# Altium footprint library Fancy.PcbLib: 140 footprints (part 9 of 9)
Each footprint in its own frame and in the unit in brackets; x right, y up, seen from the top. Pads: shape width x height; smd on the part's side, far side on the other; paste and mask are expansions set on the pad; w line width, h text height; cw(c..) or ccw(c..) is an arc to the next point about the centre after c.
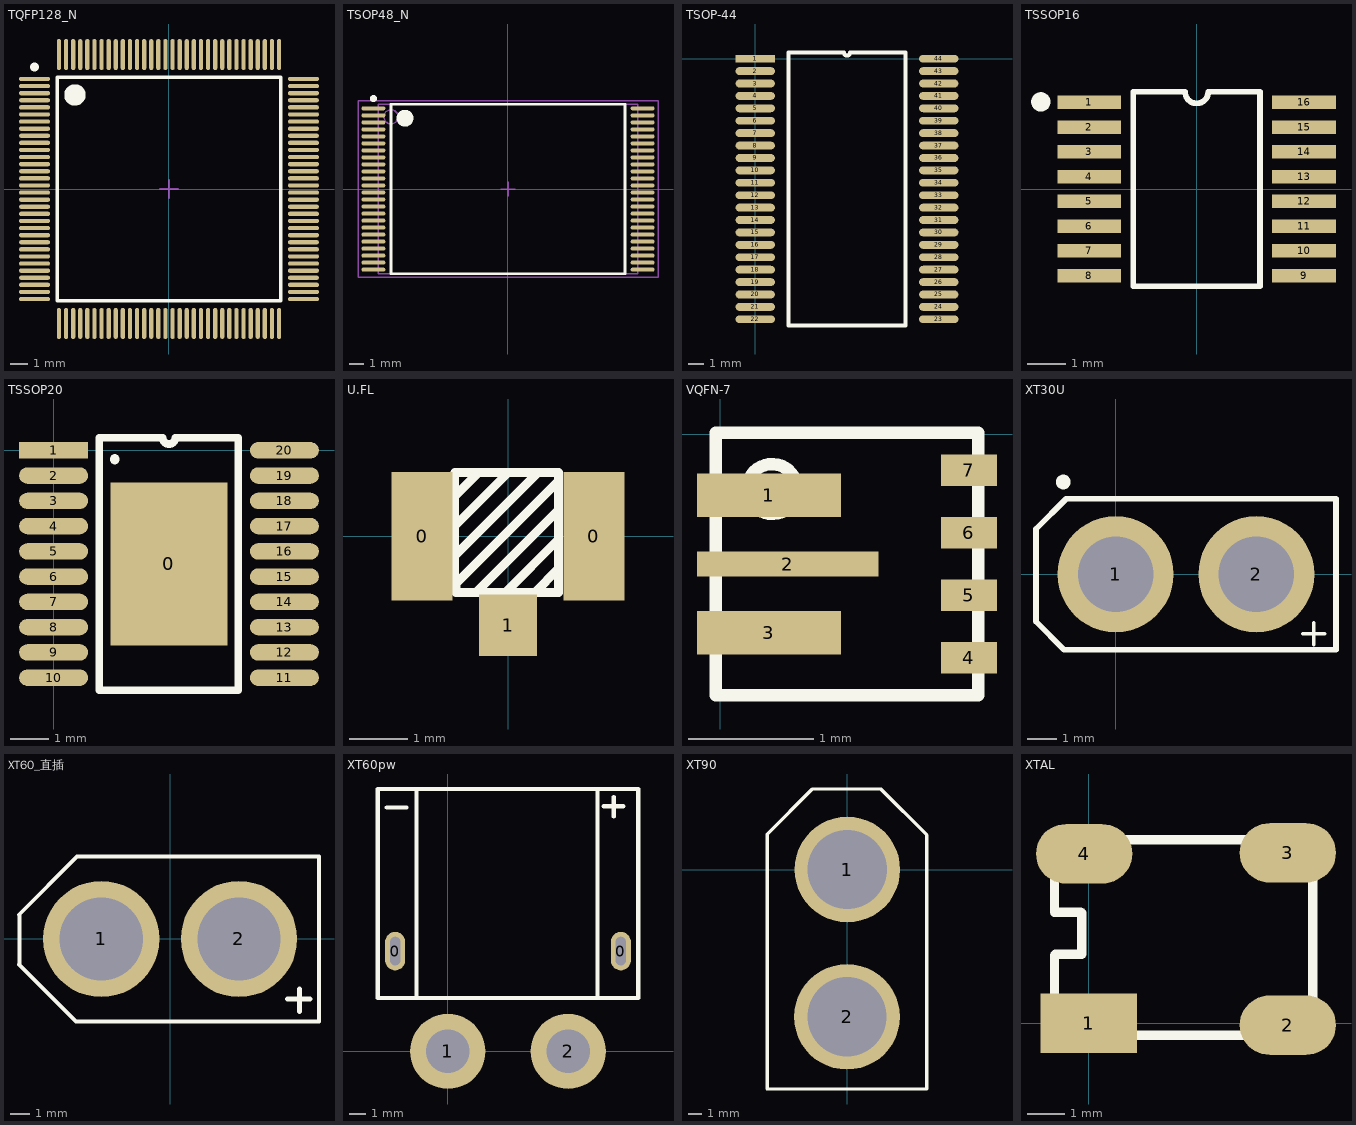
[diagram p8: the footprints below, top view; thin cyan lines are the x and y axes]

## TQFP128_N [mm] "Thin QFP, 128-Leads, Body 14x14mm, Pitch 0.4mm, IPC Medium Density"
height 1.2
pads (128):
  oval 1.75x0.24 smd: 1(-7.575,6.2) 2(-7.575,5.8) 3(-7.575,5.4) 4(-7.575,5) 5(-7.575,4.6) 6(-7.575,4.2) 7(-7.575,3.8) 8(-7.575,3.4) 9(-7.575,3) 10(-7.575,2.6) 11(-7.575,2.2) 12(-7.575,1.8) 13(-7.575,1.4) 14(-7.575,1) 15(-7.575,0.6) 16(-7.575,0.2) 17(-7.575,-0.2) 18(-7.575,-0.6) 19(-7.575,-1) 20(-7.575,-1.4) 21(-7.575,-1.8) 22(-7.575,-2.2) 23(-7.575,-2.6) 24(-7.575,-3) 25(-7.575,-3.4) 26(-7.575,-3.8) 27(-7.575,-4.2) 28(-7.575,-4.6) 29(-7.575,-5) 30(-7.575,-5.4) 31(-7.575,-5.8) 32(-7.575,-6.2) 65(7.575,-6.2) 66(7.575,-5.8) 67(7.575,-5.4) 68(7.575,-5) 69(7.575,-4.6) 70(7.575,-4.2) 71(7.575,-3.8) 72(7.575,-3.4) 73(7.575,-3) 74(7.575,-2.6) 75(7.575,-2.2) 76(7.575,-1.8) 77(7.575,-1.4) 78(7.575,-1) 79(7.575,-0.6) 80(7.575,-0.2) 81(7.575,0.2) 82(7.575,0.6) 83(7.575,1) 84(7.575,1.4) 85(7.575,1.8) 86(7.575,2.2) 87(7.575,2.6) 88(7.575,3) 89(7.575,3.4) 90(7.575,3.8) 91(7.575,4.2) 92(7.575,4.6) 93(7.575,5) 94(7.575,5.4) 95(7.575,5.8) 96(7.575,6.2)
  oval 0.24x1.75 smd: 33(-6.2,-7.575) 34(-5.8,-7.575) 35(-5.4,-7.575) 36(-5,-7.575) 37(-4.6,-7.575) 38(-4.2,-7.575) 39(-3.8,-7.575) 40(-3.4,-7.575) 41(-3,-7.575) 42(-2.6,-7.575) 43(-2.2,-7.575) 44(-1.8,-7.575) 45(-1.4,-7.575) 46(-1,-7.575) 47(-0.6,-7.575) 48(-0.2,-7.575) 49(0.2,-7.575) 50(0.6,-7.575) 51(1,-7.575) 52(1.4,-7.575) 53(1.8,-7.575) 54(2.2,-7.575) 55(2.6,-7.575) 56(3,-7.575) 57(3.4,-7.575) 58(3.8,-7.575) 59(4.2,-7.575) 60(4.6,-7.575) 61(5,-7.575) 62(5.4,-7.575) 63(5.8,-7.575) 64(6.2,-7.575) 97(6.2,7.575) 98(5.8,7.575) 99(5.4,7.575) 100(5,7.575) 101(4.6,7.575) 102(4.2,7.575) 103(3.8,7.575) 104(3.4,7.575) 105(3,7.575) 106(2.6,7.575) 107(2.2,7.575) 108(1.8,7.575) 109(1.4,7.575) 110(1,7.575) 111(0.6,7.575) 112(0.2,7.575) 113(-0.2,7.575) 114(-0.6,7.575) 115(-1,7.575) 116(-1.4,7.575) 117(-1.8,7.575) 118(-2.2,7.575) 119(-2.6,7.575) 120(-3,7.575) 121(-3.4,7.575) 122(-3.8,7.575) 123(-4.2,7.575) 124(-4.6,7.575) 125(-5,7.575) 126(-5.4,7.575) 127(-5.8,7.575) 128(-6.2,7.575)
Top Overlay:
  circle w0.6: c-5.3,5.3 r0.3
  circle w0.25: c-7.575,6.87 r0.125
  lines w0.2: -6.3,-6.3 6.3,-6.3 6.3,6.3 -6.3,6.3 -6.3,-6.3
Mechanical 15:
  lines w0.1: -0.5,0 0.5,0 ; 0,-0.5 0,0.5

## TSOP48_N [mm] "TSSOP, 48-Leads, Body 12x18.4mm, Pitch 0.5mm, IPC Medium Density"
height 1.2
pads (48):
  oval 1.7x0.3 smd: 1(-9.6,5.75) 2(-9.6,5.25) 3(-9.6,4.75) 4(-9.6,4.25) 5(-9.6,3.75) 6(-9.6,3.25) 7(-9.6,2.75) 8(-9.6,2.25) 9(-9.6,1.75) 10(-9.6,1.25) 11(-9.6,0.75) 12(-9.6,0.25) 13(-9.6,-0.25) 14(-9.6,-0.75) 15(-9.6,-1.25) 16(-9.6,-1.75) 17(-9.6,-2.25) 18(-9.6,-2.75) 19(-9.6,-3.25) 20(-9.6,-3.75) 21(-9.6,-4.25) 22(-9.6,-4.75) 23(-9.6,-5.25) 24(-9.6,-5.75) 25(9.6,-5.75) 26(9.6,-5.25) 27(9.6,-4.75) 28(9.6,-4.25) 29(9.6,-3.75) 30(9.6,-3.25) 31(9.6,-2.75) 32(9.6,-2.25) 33(9.6,-1.75) 34(9.6,-1.25) 35(9.6,-0.75) 36(9.6,-0.25) 37(9.6,0.25) 38(9.6,0.75) 39(9.6,1.25) 40(9.6,1.75) 41(9.6,2.25) 42(9.6,2.75) 43(9.6,3.25) 44(9.6,3.75) 45(9.6,4.25) 46(9.6,4.75) 47(9.6,5.25) 48(9.6,5.75)
Top Overlay:
  circle w0.25: c-9.6,6.45 r0.125
  circle w0.6: c-7.35,5.05 r0.3
  lines w0.2: -8.35,-6.05 -8.35,6.05 8.35,6.05 8.35,-6.05 -8.35,-6.05
Mechanical 13:
  circle w0.1: c-8.35,5.15 r0.5
  lines w0.1: -9.25,-6.05 -9.25,6.05 9.25,6.05 9.25,-6.05 -9.25,-6.05
Mechanical 15:
  lines w0.1: -0.5,0 0.5,0 ; 0,-0.5 0,0.5 ; -10.7,-6.3 -10.7,6.3 10.7,6.3 10.7,-6.3 -10.7,-6.3
3D body: height 1.2, standoff 0, extent -9.25,-6.05 9.25,6.05

## TSOP-44 [mil]
pads (44):
  rect 100x20 smd: 1(0,0)
  oval 100x20 smd: 2(0,-31.5) 3(0,-63) 4(0,-94.5) 5(0,-126) 6(0,-157.5) 7(0,-189) 8(0,-220.5) 9(0,-252) 10(0,-283.5) 11(0,-315) 12(0,-346.5) 13(0,-378) 14(0,-409.5) 15(0,-441) 16(0,-472.5) 17(0,-504) 18(0,-535.5) 19(0,-567) 20(0,-598.5) 21(0,-630) 22(0,-661.5) 23(466,-661.5) 24(466,-630) 25(466,-598.5) 26(466,-567) 27(466,-535.5) 28(466,-504) 29(466,-472.5) 30(466,-441) 31(466,-409.5) 32(466,-378) 33(466,-346.5) 34(466,-315) 35(466,-283.5) 36(466,-252) 37(466,-220.5) 38(466,-189) 39(466,-157.5) 40(466,-126) 41(466,-94.5) 42(466,-63) 43(466,-31.5) 44(466,0)
Top Overlay:
  lines w10: 85,-677.25 85,15.75 225.12,15.75 ccw(c233,15.75) 240.88,15.75 381,15.75 381,-677.25 85,-677.25

## TSSOP16 [mil]
pads (16):
  rect 66x14 smd: 1(-111,89.57) 2(-111,63.98) 3(-111,38.39) 4(-111,12.8) 5(-111,-12.8) 6(-111,-38.39) 7(-111,-63.98) 8(-111,-89.57) 9(111,-89.57) 10(111,-63.98) 11(111,-38.39) 12(111,-12.8) 13(111,12.8) 14(111,38.39) 15(111,63.98) 16(111,89.57)
Top Overlay:
  circle w10: c-161,90 r5
  lines w6: -65.5,-100.5 -65.5,100.5 -12,100.5 ccw(c0,100.5) 12,100.5 65.5,100.5 65.5,-100.5 -65.5,-100.5

## TSSOP20 [mm]
pads (21):
  rect 3x4.2 smd: 0(2.97,-2.925)
  rect 1.78x0.42 smd: 1(0,0)
  oval 1.78x0.42 smd: 2(0,-0.65) 3(0,-1.3) 4(0,-1.95) 5(0,-2.6) 6(0,-3.25) 7(0,-3.9) 8(0,-4.55) 9(0,-5.2) 10(0,-5.85) 11(5.94,-5.85) 12(5.94,-5.2) 13(5.94,-4.55) 14(5.94,-3.9) 15(5.94,-3.25) 16(5.94,-2.6) 17(5.94,-1.95) 18(5.94,-1.3) 19(5.94,-0.65) 20(5.94,0)
Top Overlay:
  lines w0.2: 1.175,-6.175 1.175,0.325 2.808,0.325 ccw(c2.97,0.325) 3.132,0.325 4.75,0.325 4.75,-6.175 1.175,-6.175
  lines w0.254: 1.575,-0.236 ccw(c1.448,-0.225) 1.575,-0.225

## U.FL [mm]
pads (3):
  rect 1.05x2.2 smd: 0(-1.473,0) 0(1.473,0)
  rect 1x1.05 smd: 1(0,-1.524)
Top Overlay:
  lines w0.152: -0.914,-0.94 -0.914,1.092 ; -0.914,-0.33 0.508,1.092 ; -0.914,0.178 0,1.092 ; -0.914,0.686 -0.508,1.092 ; -0.889,1.092 -0.914,1.092 ; -0.528,-0.946 0.857,0.439 ; -0.048,-0.968 0.866,-0.053 ; 0.456,-0.964 0.863,-0.558 ; -0.914,1.092 0.864,1.092 ; 0.864,1.092 0.864,0.945 -0.889,-0.808 -0.889,-0.965 0.864,-0.965 0.864,1.092

## VQFN-7 [mm]
pads (7):
  rect 1.15x0.35 smd paste-0.562 mask+0: 1(0.391,-0.486) 3(0.391,-1.586)
  rect 1.45x0.2 smd paste-0.712 mask+0: 2(0.541,-1.036)
  rect 0.45x0.25 smd paste+0 mask+0: 4(1.991,-1.786) 5(1.991,-1.286) 6(1.991,-0.786) 7(1.991,-0.286)
Top Overlay:
  circle w0.1: c0.416,-0.436 r0.2
  lines w0.1: -0.034,-2.086 2.066,-2.086 2.066,0.014 -0.034,0.014 -0.034,-2.086
Top Paste:
  drawing of 6 lines, arcs and shapes, not listed
3D body: height 0.25, standoff 0, extent 0,-2.052 2.032,-0.02

## XT30U [mm]
pads (2):
  round 4 hole 2.6: 1(0,0) 2(4.85,0)
Top Overlay:
  circle w0.254: c-1.806,3.175 r0.127
  lines w0.127: 6.45,-2.05 7.2,-2.05 ; 6.825,-2.425 6.825,-1.675
  lines w0.2: 7.592,-0.067 7.592,-2.6 -1.775,-2.6 -2.742,-1.633 -2.742,1.3 -2.742,1.558 -1.7,2.6 7.592,2.6 7.592,-0.06

## XT60_直插 [mm]
pads (2):
  round 6 hole 4.3: 1(-3.55,0) 2(3.55,0)
Top Overlay:
  lines w0.2: -7.792,-1.308 -4.85,-4.25 7.675,-4.25 7.675,4.25 -4.792,4.25 -7.792,1.25 ; -7.767,-1.333 -7.767,1.225
  lines w0.254: 6.05,-3.1 7.225,-3.1 ; 6.675,-3.75 6.675,-2.575

## XT60pw [mm]
pads (4):
  oval 1.2x2.3 hole 0.6 slot 1.7 at 90 deg: 0(-3.15,6) 0(10.35,6)
  round 4.5 hole 2.6: 1(0,0) 2(7.2,0)
Top Overlay:
  lines w0.254: -3.65,14.6 -2.475,14.6 ; -1.875,3.25 -1.875,15.7 ; 8.95,3.25 8.95,15.7 ; 9.325,14.675 10.5,14.675 ; 9.925,14.05 9.925,15.225 ; -4.2,3.2 11.4,3.2 11.4,15.7 -4.2,15.7 -4.2,3.2

## XT90 [mm]
pads (2):
  round 8 hole 6: 1(0,0) 2(-0.025,-11.151)
Top Overlay:
  lines w0.254: -6.071,-16.586 -6.045,-16.612 6.02,-16.612 6.02,2.616 2.54,6.096 -2.642,6.096 -6.071,2.667 -6.071,-16.586

## XTAL [mm]
pads (4):
  rect 2.6x1.61 smd: 1(0,0)
  oval 2.6x1.61 smd: 2(5.375,-0.05) 3(5.375,4.6) 4(-0.125,4.575)
Top Overlay:
  lines w0.254: -0.925,-0.325 -0.925,1.834 -0.9,1.859 -0.188,1.859 -0.188,2.977 -0.214,3.002 -0.925,3.002 -0.925,4.975 -0.9,4.95 6.05,4.95 6.05,-0.3 6.075,-0.325 -0.925,-0.325